# Altium footprint library KN2CLib.PcbLib: 118 footprints (part 6 of 8)
Each footprint in its own frame and in the unit in brackets; x right, y up, seen from the top. Pads: shape width x height; smd on the part's side, far side on the other; paste and mask are expansions set on the pad; w line width, h text height; cw(c..) or ccw(c..) is an arc to the next point about the centre after c.
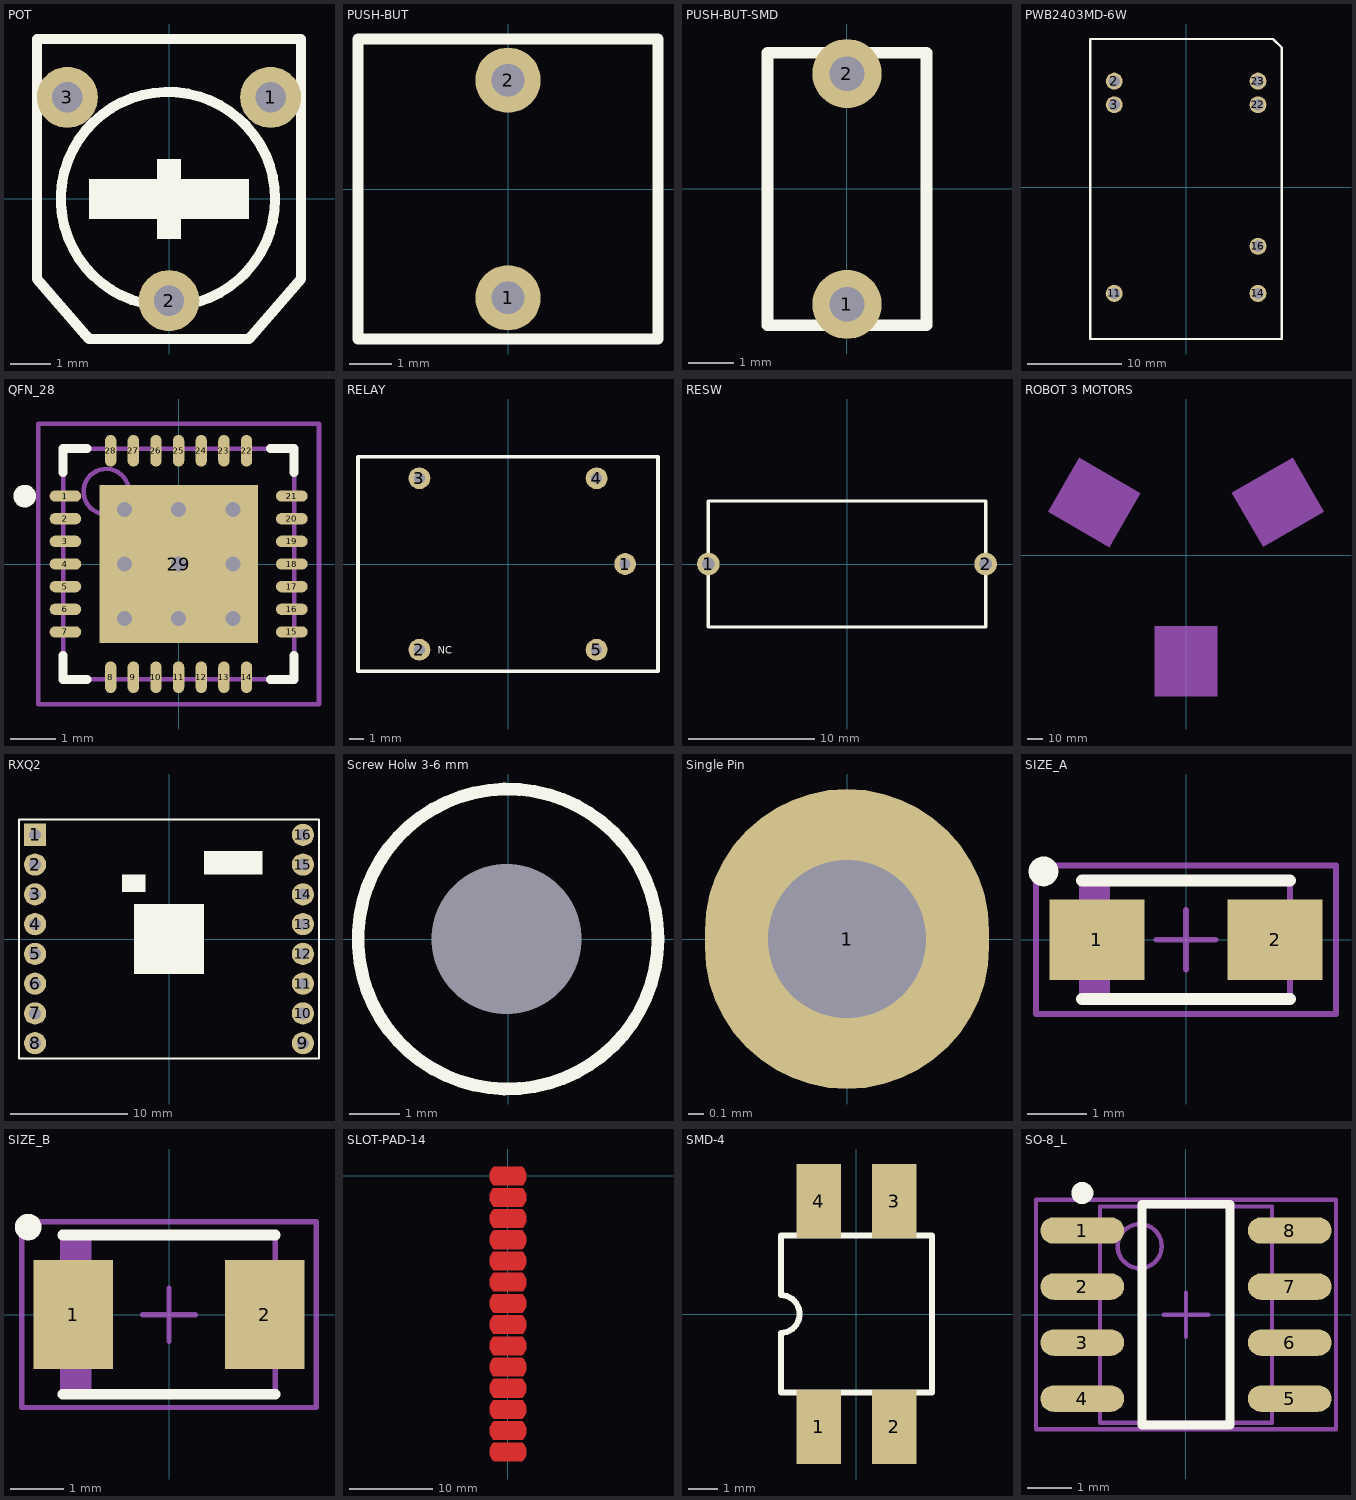
[diagram p5: the footprints below, top view; thin cyan lines are the x and y axes]

## POT [mil]
pads (3):
  round 60 hole 30: 1(100,100) 2(0,-100) 3(-100,100)
Top Overlay:
  circle w10: c-1,0 r105.42
  rectangle: -78.74,-19.68 78.74,19.68
  rectangle: -11.81,-39.37 11.81,39.37
  lines w10: -129.92,-78.74 -78.74,-137.8 78.74,-137.8 129.92,-78.74 129.92,157.48 -129.92,157.48 -129.92,-78.74
3D body: height 157.48, standoff 0, extent -134.84,-136.81 129.92,157.48

## PUSH-BUT [mil]
pads (2):
  round 60 hole 30: 1(0,-100) 2(0,100)
Top Overlay:
  lines w10: -137.8,-137.8 137.8,-137.8 137.8,137.8 -137.8,137.8 -137.8,-137.8
3D body: height 157.48, standoff 0, extent -138.78,-138.78 138.78,138.78

## PUSH-BUT-SMD [mil]
pads (2):
  round 60 hole 30: 1(0,-100) 2(0,100)
Top Overlay:
  lines w10: -68.9,-118.11 -68.9,118.11 68.9,118.11 68.9,-118.11 -68.9,-118.11
3D body: height 157.48, standoff 0, extent -69,-118 68,117

## PWB2403MD-6W [mm]
pads (7):
  round 1.8 hole 1.2: 2(-7.62,11.25) 3(-7.62,8.75) 11(-7.62,-11.25) 14(7.62,-11.25) 16(7.62,-6.25) 22(7.62,8.75) 23(7.62,11.25)
Top Overlay:
  lines w0.254: -10.16,-16.08 -10.16,15.72 9.223,15.72 10.14,14.803 10.14,-16.08 -10.16,-16.08
3D body: height 4, standoff 0, extent -10.15,-15.975 10.1,15.625

## QFN_28 [mm] "QFN, 28-Leads, Body 5.1x5.1mm (max), Pitch 0.50mm, IPC Medium Density"
height 0.8
pads (29):
  oval 0.7x0.25 smd: 1(-2.5,1.5) 2(-2.5,1) 3(-2.5,0.5) 4(-2.5,0) 5(-2.5,-0.5) 6(-2.5,-1) 7(-2.5,-1.5) 15(2.5,-1.5) 16(2.5,-1) 17(2.5,-0.5) 18(2.5,0) 19(2.5,0.5) 20(2.5,1) 21(2.5,1.5)
  oval 0.25x0.7 smd: 8(-1.5,-2.5) 9(-1,-2.5) 10(-0.5,-2.5) 11(0,-2.5) 12(0.5,-2.5) 13(1,-2.5) 14(1.5,-2.5) 22(1.5,2.5) 23(1,2.5) 24(0.5,2.5) 25(0,2.5) 26(-0.5,2.5) 27(-1,2.5) 28(-1.5,2.5)
  rect 3.5x3.5 smd: 29(0,0)
via -1.2,1.2 diameter 0.66 hole 0.33
via 0,1.2 diameter 0.66 hole 0.33
via 1.2,1.2 diameter 0.66 hole 0.33
via -1.2,0 diameter 0.66 hole 0.33
via 0,0 diameter 0.66 hole 0.33
via 1.2,0 diameter 0.66 hole 0.33
via -1.2,-1.2 diameter 0.66 hole 0.33
via 0,-1.2 diameter 0.66 hole 0.33
via 1.2,-1.2 diameter 0.66 hole 0.33
Top Overlay:
  circle w0.25: c-3.4,1.5 r0.125
  lines w0.2: -2.55,-2.025 -2.55,-2.55 -2.025,-2.55 ; -2.55,2.025 -2.55,2.55 -2.025,2.55 ; 2.025,-2.55 2.55,-2.55 2.55,-2.025 ; 2.025,2.55 2.55,2.55 2.55,2.025
Mechanical 13:
  circle w0.1: c-1.6,1.6 r0.5
  lines w0.1: -2.55,-2.55 -2.55,2.55 2.55,2.55 2.55,-2.55 -2.55,-2.55
Mechanical 15:
  lines w0.1: -0.5,0 0.5,0 ; 0,-0.5 0,0.5 ; -3.1,-3.1 -3.1,3.1 3.1,3.1 3.1,-3.1 -3.1,-3.1
3D body: height 0.8, standoff 0.02, extent -2.55,-2.55 2.55,2.55

## RELAY [mil]
pads (5):
  round 60 hole 30: 1(322.83,0) 2(-244.09,-236.22) 3(-244.09,236.22) 4(244.09,236.22) 5(244.09,-236.22)
Top Overlay:
  lines w10: -413.39,-295.28 413.39,-295.28 413.39,295.28 -413.39,295.28 -413.39,-295.28
  text "NC" at -193.1,-247.3 h19.68
3D body: height 157.48, standoff 0, extent -413.39,-295.28 411.42,293.31

## RESW [mm]
pads (2):
  round 1.8 hole 1: 1(-11,0) 2(11,0)
Top Overlay:
  lines w0.254: -11,-5 11,-5 11,5 -11,5 -11,-5
3D body: height 4, standoff 0, extent -11.025,-5 10.975,4.95

## ROBOT 3 MOTORS [mm]
Drill Guide:
  region: 19.984,-89.925 19.984,-71.925 -20.016,-71.925 -20.016,-89.925
  region: 12.437,-71.913 12.437,-21.913 -12.563,-21.913 -12.563,-71.913
  region: -52.316,53.28 -67.905,62.28 -87.905,27.639 -72.316,18.639
  region: -12.742,22.013 -56.043,47.013 -68.543,25.362 -25.242,0.362
  region: 25.335,0.212 68.636,25.212 56.136,46.863 12.835,21.863
  region: 72.382,18.696 87.971,27.696 67.971,62.337 52.382,53.337
  lines w0.254: -67.149,59.926 ccw(c0,0) 67.092,59.988 ; -67.149,60 67.092,60
Mechanical 1:
  region: 19.984,-89.925 19.984,-44.925 -20.016,-44.925 -20.016,-89.925
  region: -28.934,39.78 -67.905,62.28 -87.905,27.639 -48.934,5.139
  region: 49,5.196 87.971,27.696 67.971,62.337 29,39.837

## RXQ2 [mm]
pads (16):
  rect 1.9x1.9 hole 1: 1(-11.43,8.89)
  round 1.9 hole 1: 2(-11.43,6.35) 3(-11.43,3.81) 4(-11.43,1.27) 5(-11.43,-1.27) 6(-11.43,-3.81) 7(-11.43,-6.35) 8(-11.43,-8.89) 9(11.43,-8.89) 10(11.43,-6.35) 11(11.43,-3.81) 12(11.43,-1.27) 13(11.43,1.27) 14(11.43,3.81) 15(11.43,6.35) 16(11.43,8.89)
Top Overlay:
  rectangle: -4,4 -2,5.5
  rectangle: -3,-3 3,3
  rectangle: 3,5.5 8,7.5
  lines w0.2: -12.8,-10.2 12.8,-10.2 12.8,10.2 -12.8,10.2 -12.8,-10.2
3D body: height 5, standoff 3, extent -12.8,-10.2 12.8,10.2

## Screw Holw 3-6 mm [mm]
pads (1):
  round 0 hole 3: 0(-0.025,0)
Top Overlay:
  circle w0.254: c0,0 r3

## Single Pin [mm] "A Single Pin"
pads (1):
  oval 1.8x1.9 hole 1: 1(0,0)

## SIZE_A [mm] "Molded Capacitor, 2-Leads, Body 3.4x1.9mm, IPC Medium Density"
height 2
pads (2):
  rect 1.6x1.35 smd: 1(-1.5,0) 2(1.5,0)
Top Overlay:
  circle w0.25: c-2.4,1.15 r0.125
  lines w0.2: -1.75,-1 1.75,-1 ; -1.75,1 1.75,1
Mechanical 13:
  rectangle: -1.75,-1 -1.279,1
  lines w0.1: -1.75,-1 1.75,-1 1.75,1 -1.75,1 -1.75,-1
Mechanical 15:
  lines w0.1: -0.5,0 0.5,0 ; 0,-0.5 0,0.5 ; -2.525,-1.25 2.525,-1.25 2.525,1.25 -2.525,1.25 -2.525,-1.25
3D body: height 2, standoff 0, extent -1.75,-1 1.75,1

## SIZE_B [mm] "Molded Capacitor, 2-Leads, Body 3.9x3.0mm, IPC Medium Density"
height 2
pads (2):
  rect 1.5x2.05 smd: 1(-1.8,0) 2(1.8,0)
Top Overlay:
  circle w0.25: c-2.65,1.65 r0.125
  lines w0.2: -2,-1.5 2,-1.5 ; -2,1.5 2,1.5
Mechanical 13:
  rectangle: -2,-1.5 -1.462,1.5
  lines w0.1: -2,-1.5 -2,1.5 2,1.5 2,-1.5 -2,-1.5
Mechanical 15:
  lines w0.1: -0.5,0 0.5,0 ; 0,-0.5 0,0.5 ; -2.775,-1.75 -2.775,1.75 2.775,1.75 2.775,-1.75 -2.775,-1.75
3D body: height 2, standoff 0, extent -2,-1.5 2,1.5

## SLOT-PAD-14 [mm]
Top Layer:
  rectangle: 1.803,-31.064 2.007,-29.794
  rectangle: -2.007,-31.115 -1.803,-29.845
  rectangle: -1.803,-31.318 -1.549,-29.667
  rectangle: 1.651,-31.344 1.905,-29.693
  rectangle: -1.676,-31.648 1.702,-29.362
  rectangle: -1.676,-34.188 1.702,-31.902
  rectangle: 1.651,-33.884 1.905,-32.233
  rectangle: -1.803,-33.858 -1.549,-32.207
  rectangle: -2.007,-33.655 -1.803,-32.385
  rectangle: 1.803,-33.604 2.007,-32.334
  rectangle: 1.803,-15.824 2.007,-14.554
  rectangle: -2.007,-15.875 -1.803,-14.605
  rectangle: -1.803,-16.078 -1.549,-14.427
  rectangle: 1.651,-16.104 1.905,-14.453
  rectangle: -1.676,-16.408 1.702,-14.122
  rectangle: -1.676,-18.948 1.702,-16.662
  rectangle: 1.651,-18.644 1.905,-16.993
  rectangle: -1.803,-18.618 -1.549,-16.967
  rectangle: -2.007,-18.415 -1.803,-17.145
  rectangle: 1.803,-18.364 2.007,-17.094
  rectangle: -1.676,-21.488 1.702,-19.202
  rectangle: 1.651,-21.184 1.905,-19.533
  rectangle: -1.803,-21.158 -1.549,-19.507
  rectangle: -2.007,-20.955 -1.803,-19.685
  rectangle: 1.803,-20.904 2.007,-19.634
  rectangle: 1.803,-28.524 2.007,-27.254
  rectangle: -2.007,-28.575 -1.803,-27.305
  rectangle: -1.803,-28.778 -1.549,-27.127
  rectangle: 1.651,-28.804 1.905,-27.153
  rectangle: -1.676,-29.108 1.702,-26.822
  rectangle: 1.803,-25.984 2.007,-24.714
  rectangle: -2.007,-26.035 -1.803,-24.765
  rectangle: -1.803,-26.238 -1.549,-24.587
  rectangle: 1.651,-26.264 1.905,-24.613
  rectangle: -1.676,-26.568 1.702,-24.282
  rectangle: -1.676,-24.028 1.702,-21.742
  rectangle: 1.651,-23.724 1.905,-22.073
  rectangle: -1.803,-23.698 -1.549,-22.047
  rectangle: -2.007,-23.495 -1.803,-22.225
  rectangle: 1.803,-23.444 2.007,-22.174
  rectangle: 1.803,-8.204 2.007,-6.934
  rectangle: -2.007,-8.255 -1.803,-6.985
  rectangle: -1.803,-8.458 -1.549,-6.807
  rectangle: 1.651,-8.484 1.905,-6.833
  rectangle: -1.676,-8.788 1.702,-6.502
  rectangle: -1.676,-11.328 1.702,-9.042
  rectangle: 1.651,-11.024 1.905,-9.373
  rectangle: -1.803,-10.998 -1.549,-9.347
  rectangle: -2.007,-10.795 -1.803,-9.525
  rectangle: 1.803,-10.744 2.007,-9.474
  rectangle: -1.676,-13.868 1.702,-11.582
  rectangle: 1.651,-13.564 1.905,-11.913
  rectangle: -1.803,-13.538 -1.549,-11.887
  rectangle: -2.007,-13.335 -1.803,-12.065
  rectangle: 1.803,-13.284 2.007,-12.014
  rectangle: 1.803,-5.664 2.007,-4.394
  rectangle: -2.007,-5.715 -1.803,-4.445
  rectangle: -1.803,-5.918 -1.549,-4.267
  rectangle: 1.651,-5.944 1.905,-4.293
  rectangle: -1.676,-6.248 1.702,-3.962
  rectangle: 1.803,-3.124 2.007,-1.854
  rectangle: -2.007,-3.175 -1.803,-1.905
  rectangle: -1.803,-3.378 -1.549,-1.727
  rectangle: 1.651,-3.404 1.905,-1.753
  rectangle: -1.676,-3.708 1.702,-1.422
  rectangle: -1.676,-1.168 1.702,1.118
  rectangle: 1.651,-0.864 1.905,0.787
  rectangle: -1.803,-0.838 -1.549,0.813
  rectangle: -2.007,-0.635 -1.803,0.635
  rectangle: 1.803,-0.584 2.007,0.686
  lines w0.254: -1.676,-32.029 ccw(c-0.648,-33.033) -1.651,-34.061 ; -1.676,-29.489 ccw(c-0.648,-30.493) -1.651,-31.521 ; -1.676,-26.949 ccw(c-0.648,-27.953) -1.651,-28.981 ; -1.676,-24.409 ccw(c-0.648,-25.413) -1.651,-26.441 ; -1.676,-21.869 ccw(c-0.648,-22.873) -1.651,-23.901 ; -1.676,-19.329 ccw(c-0.648,-20.333) -1.651,-21.361 ; -1.676,-16.789 ccw(c-0.648,-17.793) -1.651,-18.821 ; -1.676,-14.249 ccw(c-0.648,-15.253) -1.651,-16.281 ; -1.676,-11.709 ccw(c-0.648,-12.713) -1.651,-13.741 ; -1.676,-9.169 ccw(c-0.648,-10.173) -1.651,-11.201 ; -1.676,-6.629 ccw(c-0.648,-7.633) -1.651,-8.661 ; -1.676,-4.089 ccw(c-0.648,-5.093) -1.651,-6.121 ; -1.676,-1.549 ccw(c-0.648,-2.553) -1.651,-3.581 ; -1.676,0.991 ccw(c-0.648,-0.013) -1.651,-1.041 ; 1.676,-32.029 cw(c0.673,-33.058) 1.702,-34.061 ; 1.676,-29.489 cw(c0.673,-30.518) 1.702,-31.521 ; 1.676,-26.949 cw(c0.673,-27.978) 1.702,-28.981 ; 1.676,-24.409 cw(c0.673,-25.438) 1.702,-26.441 ; 1.676,-21.869 cw(c0.673,-22.898) 1.702,-23.901 ; 1.676,-19.329 cw(c0.673,-20.358) 1.702,-21.361 ; 1.676,-16.789 cw(c0.673,-17.818) 1.702,-18.821 ; 1.676,-14.249 cw(c0.673,-15.278) 1.702,-16.281 ; 1.676,-11.709 cw(c0.673,-12.738) 1.702,-13.741 ; 1.676,-9.169 cw(c0.673,-10.198) 1.702,-11.201 ; 1.676,-6.629 cw(c0.673,-7.658) 1.702,-8.661 ; 1.676,-4.089 cw(c0.673,-5.118) 1.702,-6.121 ; 1.676,-1.549 cw(c0.673,-2.578) 1.702,-3.581 ; 1.676,0.991 cw(c0.673,-0.038) 1.702,-1.041

## SMD-4 [mm] "DIP; 4 Leads; Row Spacing 7.62 mm; Pitch 2.54 mm"
height 5.6
pads (4):
  rect 1.5x2.5 smd: 1(-1.27,-3.81) 2(1.27,-3.81) 3(1.27,3.81) 4(-1.27,3.81)
Top Overlay:
  lines w0.2: -2.55,-2.65 -2.55,-0.635 ccw(c-2.55,0) -2.55,0.635 -2.55,2.65 2.55,2.65 2.55,-2.65 -2.55,-2.65

## SO-8_L [mm] "8-Pin Small Outline Integrated Circuit 1.27 mm Pitch, IPC High Density"
height 1.75
pads (8):
  oval 1.9x0.6 smd: 1(-2.35,1.905) 2(-2.35,0.635) 3(-2.35,-0.635) 4(-2.35,-1.905) 5(2.35,-1.905) 6(2.35,-0.635) 7(2.35,0.635) 8(2.35,1.905)
Top Overlay:
  circle w0.25: c-2.35,2.755 r0.125
  lines w0.2: -1,-2.5 -1,2.5 1,2.5 1,-2.5 -1,-2.5
Mechanical 13:
  circle w0.1: c-1.05,1.55 r0.5
  lines w0.1: -1.95,-2.45 -1.95,2.45 1.95,2.45 1.95,-2.45 -1.95,-2.45
Mechanical 15:
  lines w0.1: -0.5,0 0.5,0 ; 0,-0.5 0,0.5 ; -3.4,-2.6 -3.4,2.6 3.4,2.6 3.4,-2.6 -3.4,-2.6
3D body: height 1.75, standoff 0, extent -1.95,-2.45 1.95,2.45